# Altium schematic symbol library kmilo17pet-TI_StepDown.SchLib: 565 symbols (part 29 of 33)
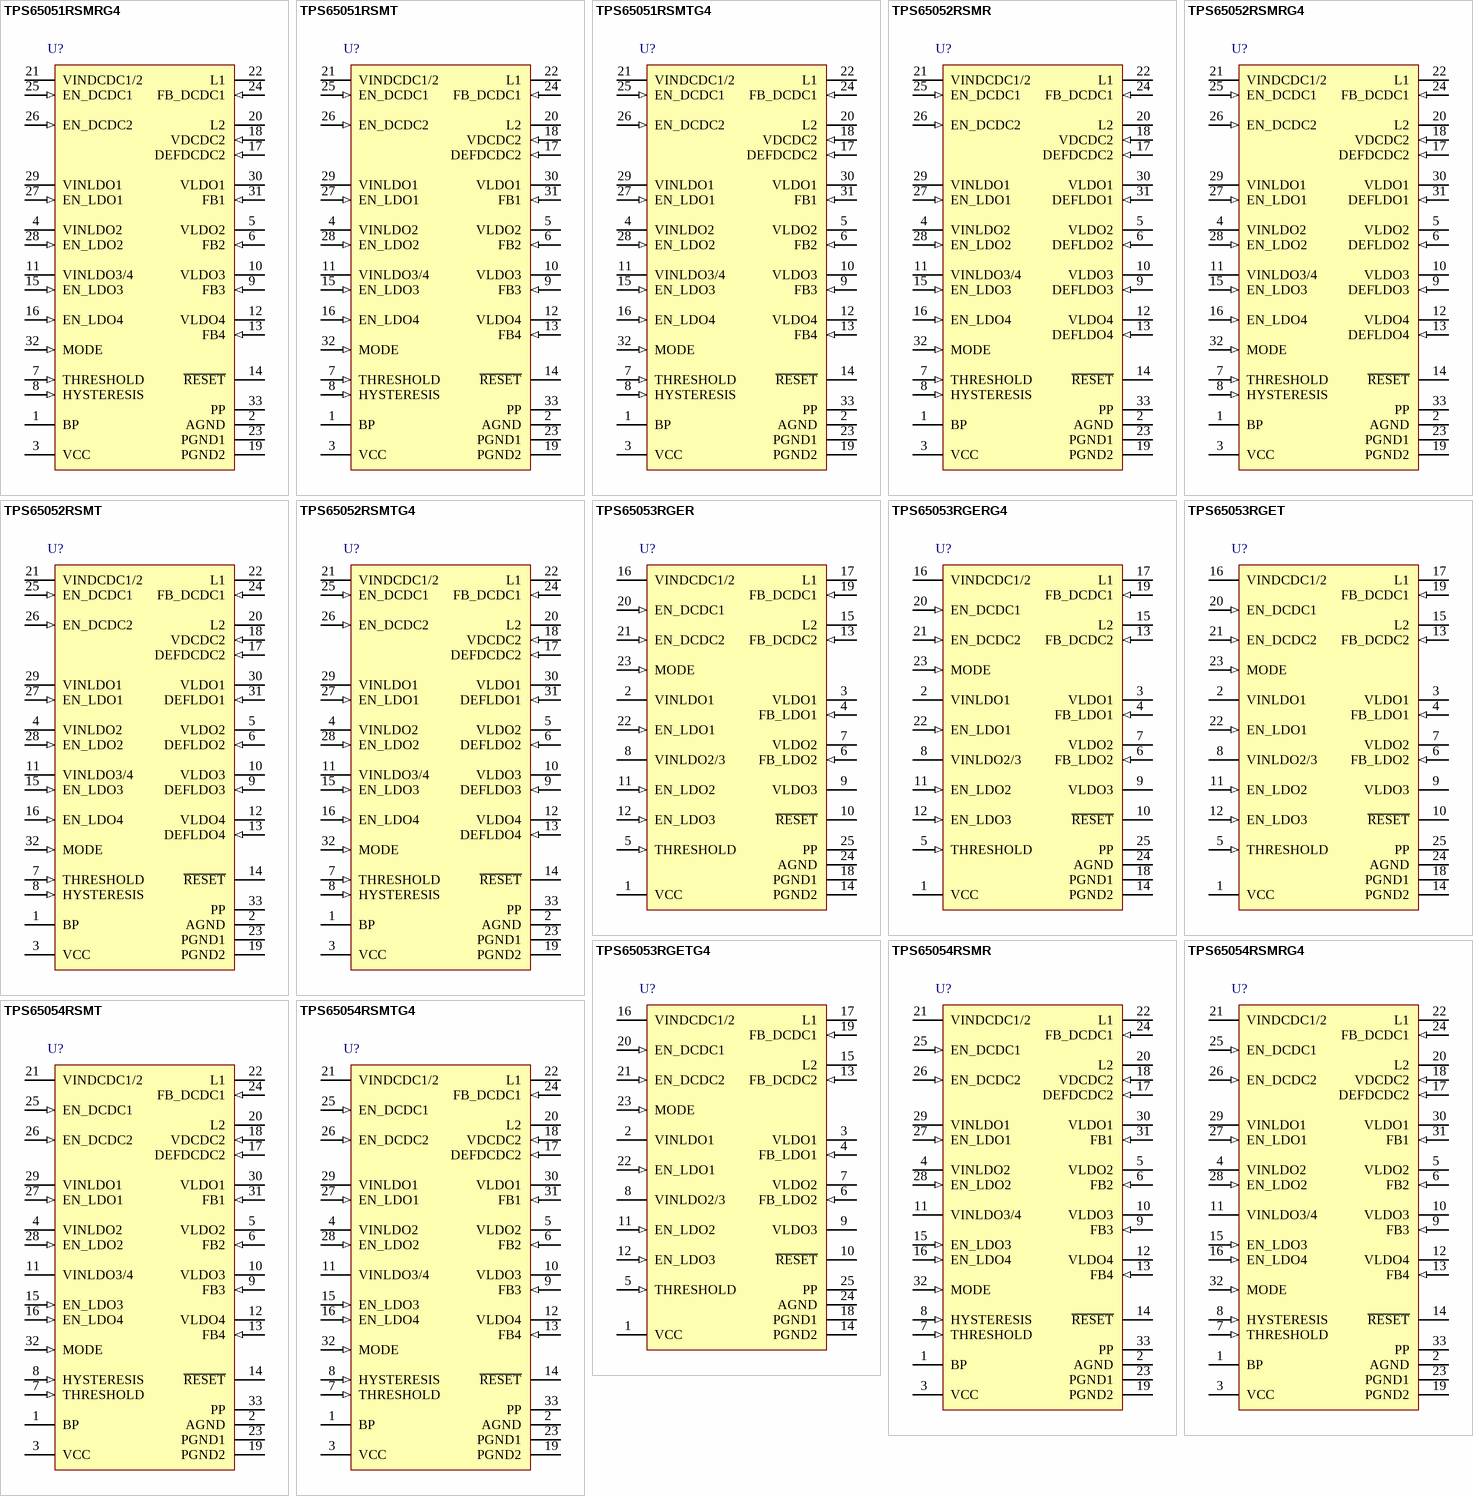
[diagram p47: symbols TPS65051RSMRG4 to TPS65054RSMTG4]

## TPS65052RSMTG4
designator U?
Multi-Channel Power Management IC with 2.5 to 6 V Input and 3.3 V Output, 32-Pin VQFN (RSM), Green (RoHS & no Sb/Br); Manufacturer: Texas Instruments; PartNumber: TPS65052RSMTG4; Duty Cycle(Max)(%): 100; Dynamic Voltage Scaling: TRUE; Iout(Max)(A): 0.6; Iq(Typ)(mA): 2.4; Rating: Catalog; Regulated Outputs(#): 6; SubFamily: Step-Down Regulator; Vin(Min)(V): 2.5; Vout(Max)(V): 3.3; DatasheetVersion: SLVS710A; PackageVersion: revB, Mar-2010; PackageReference: RSM32-2800X2800TP; PackageDescription: 32-Pin Plastic Quad Flat No-Lead, 4 x 4 mm Body, 0.4 mm Pitch, 2.8 x 2.8 mm Exposed Pad; Supplier 1: Digi-Key; Supplier Part Number 1: TPS65052RSMTG4-ND; Eco-Plan: Green (RoHS & no Sb/Br); Topology: Multi-Channel; Vin(Max)(V): 6; Vout(Min)(V): 3.3; Mounting Technology: Surface Mount; ComponentLink1Description: Datasheet; ComponentLink1URL: http://www.ti.com/general/docs/lit/getliterature.tsp?genericPartNumber=TPS65052&fileType=pdf; ComponentLink2Description: Package Specification; ComponentLink2URL: http://www.ti.com/litv/pdf/mpqf195a; ComponentLink3Description: URL Link1; ComponentLink3URL: Samples URL:http://www.ti.com/product/tps54611#samples
footprint RSM32-2800X2800TP (QFN, 32-Leads, Body 4x4mm, Pitch 0.4mm, Thermal Pad 2.8x2.8mm, TI Recommended)
pins: 1 BP "Input for bypass capacitor for internal reference", 2 AGND (power) "Analog GND, connect to PGND and PowerPad", 3 VCC (power) "Power supply for digital and analog circuitry of DCDC1, DCDC2  and LDOs. This pin must be connected to the same voltage supply as VINDCDC1/2.", 4 VINLDO2 (power) "Input voltage for LDO2", 5 VLDO2 (power) "Output voltage of LDO2", 6 DEFLDO2 (in) "Digital input, used to set the default output voltage of LDO1 to LDO4", 7 THRESHOLD (in) "Reset input", 8 HYSTERESIS (in) "Input for hysteresis on reset threshold", 9 DEFLDO3 (in) "Digital input, used to set the default output voltage of LDO1 to LDO4", 10 VLDO3 (power) "Output voltage of LDO3", 11 VINLDO3/4 (power) "Input voltage for LDO3 and LDO4", 12 VLDO4 (power) "Output voltage of LDO4", 13 DEFLDO4 (in) "Digital input ,used to set the default output voltage of LDO1 to LDO4;MSB", 14 ~{RESET} (oc) "Open drain active low reset output, 100 ms reset delay time.", 15 EN_LDO3 (in) "Enable input for LDO3. Logic high enables the LDO, logic low disables the LDO.", 16 EN_LDO4 (in) "Enable input for LDO4. Logic high enables the LDO, logic low disables the LDO.", 17 DEFDCDC2 (in) "TPS65050 and TPS65051: Feedback pin for converter 2. Connect DEFDCDC2 to the center of the external resistor divider. TPS65052 and TPS65056: Select pin of converter 2 output voltage. High = 1.3 V, Low = 1 V TPS65054: Select (See Datasheet)", 18 VDCDC2 (in) "Feedback  voltage sense input, connect directly to the output of converter 2.", 19 PGND2 (power) "GND for converter 2", 20 L2 (power) "Switch Pin of converter 2. Connected to Inductor.", 21 VINDCDC1/2 (power) "Input voltage for VDCDC1 and VDCDC2 step-down converter .This must be concented to the same voltage supply as VCC", 22 L1 (power) "Switch pin of converter 1. Connected to Inductor .", 23 PGND1 (power) "GND for converter 1", 24 FB_DCDC1 (in) "Input to adjust output voltage of converter 1 between 0.6 V and VI. Connect external resistor divider between VOUT1, this pin, and GND.", 25 EN_DCDC1 (in) "Enable Input for converter 1, active high", 26 EN_DCDC2 (in) "Enable Input for converter 2, active high", 27 EN_LDO1 (in) "Enable input for LDO1. Logic high enables the LDO, logic low disables the LDO.", 28 EN_LDO2 (in) "Enable input for LDO2. Logic high enables the LDO, logic low disables the LDO.", 29 VINLDO1 (power) "Input voltage for LDO1", 30 VLDO1 (power) "Output voltage of LDO1", 31 DEFLDO1 (in) "Digital input, used to set the default output voltage of LDO1 to LDO4", 32 MODE (in) "Select between Power Safe Mode and forced PWM Mode for DCDC1 and DCDC2. In Power Safe Mode, PFM is used at light loads, PWM for higher loads. If PIN is set to high level, forced PWM Mode is selected. If Pin has low level, (See Datasheet)", 33 PP (power) "Connect to GND"

## TPS65053RGER
designator U?
Multi-Channel Power Management IC with 2.5 to 6 V Input, -40 to 85 degC, 24-Pin VQFN (RGE), Green (RoHS & no Sb/Br); Manufacturer: Texas Instruments; PartNumber: TPS65053RGER; Rating: Catalog; Regulated Outputs(#): 5; SubFamily: Step-Down Regulator; Vin(Max)(V): 6; Vin(Min)(V): 2.5; DatasheetVersion: SLVS754C; PackageVersion: revG, Jul-2011; PackageReference: RGE24-2700X2700TP; PackageDescription: 24-Pin Plastic Quad Flatpack No-Lead, 4 x 4 mm Body, 0.5 mm Pitch; Supplier 1: Digi-Key; Supplier Part Number 1: 296-24929-2-ND; Eco-Plan: Green (RoHS & no Sb/Br); Topology: Multi-Channel; Mounting Technology: Surface Mount; Code_JEDEC: MO-220; ComponentLink1Description: Datasheet; ComponentLink1URL: http://www.ti.com/general/docs/lit/getliterature.tsp?genericPartNumber=TPS65053&fileType=pdf; ComponentLink2Description: Package Specification; ComponentLink2URL: http://www.ti.com/litv/pdf/mpqf124f; ComponentLink3Description: URL Link1; ComponentLink3URL: Samples URL:http://www.ti.com/product/tps65053#samples
footprint RGE24-2700X2700TP (QFN, 24-Leads, Body 4x4mm, Pitch 0.5mm, Thermal Pad 2.7x2.7mm, TI Recommended)
pins: 1 VCC (power) "Power supply for digital and analog circuit of DCDC1, DCDC2 and LDOs. This pin must be connected to the same voltage supply as VINDCDC1/2.", 2 VINLDO1 (power) "Input voltage for LDO1", 3 VLDO1 (power) "Output voltage of LDO1", 4 FB_LDO1 (in) "Feedback input for the external voltage divider.", 5 THRESHOLD (in) "Reset input", 6 FB_LDO2 (in) "Feedback input for the external voltage divider.", 7 VLDO2 (power) "Output voltage of LDO2", 8 VINLDO2/3 (power) "Input voltage for LDO2 and LDO3", 9 VLDO3 (power) "Output voltage of LDO3", 10 ~{RESET} (oc) "Open drain active low reset output, 100 ms reset delay time.", 11 EN_LDO2 (in) "Enable input for LDO2. Logic high enables the LDO, logic low disables the LDO.", 12 EN_LDO3 (in) "Enable input for LDO3. Logic high enables the LDO, logic low disables the LDO.", 13 FB_DCDC2 (in) "Input to adjust output voltage of converter 2 between 0.6V and VIN.Connect external resistor divider between VOUT2,this pin and GND.", 14 PGND2 (power) "GND for converter 2", 15 L2 (power) "Switch Pin of converter 2. Connected to Inductor.", 16 VINDCDC1/2 (power) "Input voltage for VDCDC1 and VDCDC2 step-down converter. This must be connected to the same voltage supply as VCC.", 17 L1 (power) "Switch pin of converter 1. Connected to Inductor", 18 PGND1 (power) "GND for converter 1", 19 FB_DCDC1 (in) "Input to adjust output voltage of converter 1 between 0.6 V and VI. Connect external resistor divider between VOUT1, this pin and GND.", 20 EN_DCDC1 (in) "Enable Input for converter 1, active high", 21 EN_DCDC2 (in) "Enable Input for converter 2, active high", 22 EN_LDO1 (in) "Enable input for LDO1. Logic high enables the LDO, logic low disables the LDO.", 23 MODE (in) "Select between Power Save Mode and forced PWM Mode for DCDC1 and DCDC2. In Power Save Mode, PFM is used at light loads, PWM for higher loads. If PIN is set to high level, forced PWM Mode is selected. If Pin has low level, (See Datasheet)", 24 AGND (power) "Analog GND, connect to PGND and PowerPAD", 25 PP (power) "Connect to GND"

## TPS65053RGERG4
designator U?
Multi-Channel Power Management IC with 2.5 to 6 V Input, -40 to 85 degC, 24-Pin VQFN (RGE), Green (RoHS & no Sb/Br); Manufacturer: Texas Instruments; PartNumber: TPS65053RGERG4; Rating: Catalog; Regulated Outputs(#): 5; SubFamily: Step-Down Regulator; Vin(Max)(V): 6; Vin(Min)(V): 2.5; DatasheetVersion: SLVS754C; PackageVersion: revG, Jul-2011; PackageReference: RGE24-2700X2700TP; PackageDescription: 24-Pin Plastic Quad Flatpack No-Lead, 4 x 4 mm Body, 0.5 mm Pitch; Supplier 1: Digi-Key; Supplier Part Number 1: TPS65053RGERG4-ND; Eco-Plan: Green (RoHS & no Sb/Br); Topology: Multi-Channel; Mounting Technology: Surface Mount; Code_JEDEC: MO-220; ComponentLink1Description: Datasheet; ComponentLink1URL: http://www.ti.com/general/docs/lit/getliterature.tsp?genericPartNumber=TPS65053&fileType=pdf; ComponentLink2Description: Package Specification; ComponentLink2URL: http://www.ti.com/litv/pdf/mpqf124f; ComponentLink3Description: URL Link1; ComponentLink3URL: Samples URL:http://www.ti.com/product/tps65053#samples
footprint RGE24-2700X2700TP (QFN, 24-Leads, Body 4x4mm, Pitch 0.5mm, Thermal Pad 2.7x2.7mm, TI Recommended)
pins: 1 VCC (power) "Power supply for digital and analog circuit of DCDC1, DCDC2 and LDOs. This pin must be connected to the same voltage supply as VINDCDC1/2.", 2 VINLDO1 (power) "Input voltage for LDO1", 3 VLDO1 (power) "Output voltage of LDO1", 4 FB_LDO1 (in) "Feedback input for the external voltage divider.", 5 THRESHOLD (in) "Reset input", 6 FB_LDO2 (in) "Feedback input for the external voltage divider.", 7 VLDO2 (power) "Output voltage of LDO2", 8 VINLDO2/3 (power) "Input voltage for LDO2 and LDO3", 9 VLDO3 (power) "Output voltage of LDO3", 10 ~{RESET} (oc) "Open drain active low reset output, 100 ms reset delay time.", 11 EN_LDO2 (in) "Enable input for LDO2. Logic high enables the LDO, logic low disables the LDO.", 12 EN_LDO3 (in) "Enable input for LDO3. Logic high enables the LDO, logic low disables the LDO.", 13 FB_DCDC2 (in) "Input to adjust output voltage of converter 2 between 0.6V and VIN.Connect external resistor divider between VOUT2,this pin and GND.", 14 PGND2 (power) "GND for converter 2", 15 L2 (power) "Switch Pin of converter 2. Connected to Inductor.", 16 VINDCDC1/2 (power) "Input voltage for VDCDC1 and VDCDC2 step-down converter. This must be connected to the same voltage supply as VCC.", 17 L1 (power) "Switch pin of converter 1. Connected to Inductor", 18 PGND1 (power) "GND for converter 1", 19 FB_DCDC1 (in) "Input to adjust output voltage of converter 1 between 0.6 V and VI. Connect external resistor divider between VOUT1, this pin and GND.", 20 EN_DCDC1 (in) "Enable Input for converter 1, active high", 21 EN_DCDC2 (in) "Enable Input for converter 2, active high", 22 EN_LDO1 (in) "Enable input for LDO1. Logic high enables the LDO, logic low disables the LDO.", 23 MODE (in) "Select between Power Save Mode and forced PWM Mode for DCDC1 and DCDC2. In Power Save Mode, PFM is used at light loads, PWM for higher loads. If PIN is set to high level, forced PWM Mode is selected. If Pin has low level, (See Datasheet)", 24 AGND (power) "Analog GND, connect to PGND and PowerPAD", 25 PP (power) "Connect to GND"

## TPS65053RGET
designator U?
Multi-Channel Power Management IC with 2.5 to 6 V Input, -40 to 85 degC, 24-Pin VQFN (RGE), Green (RoHS & no Sb/Br); Manufacturer: Texas Instruments; PartNumber: TPS65053RGET; Rating: Catalog; Regulated Outputs(#): 5; SubFamily: Step-Down Regulator; Vin(Max)(V): 6; Vin(Min)(V): 2.5; DatasheetVersion: SLVS754C; PackageVersion: revG, Jul-2011; PackageReference: RGE24-2700X2700TP; PackageDescription: 24-Pin Plastic Quad Flatpack No-Lead, 4 x 4 mm Body, 0.5 mm Pitch; Supplier 1: Digi-Key; Supplier Part Number 1: 296-21686-2-ND; Eco-Plan: Green (RoHS & no Sb/Br); Topology: Multi-Channel; Mounting Technology: Surface Mount; Code_JEDEC: MO-220; ComponentLink1Description: Datasheet; ComponentLink1URL: http://www.ti.com/general/docs/lit/getliterature.tsp?genericPartNumber=TPS65053&fileType=pdf; ComponentLink2Description: Package Specification; ComponentLink2URL: http://www.ti.com/litv/pdf/mpqf124f; ComponentLink3Description: URL Link1; ComponentLink3URL: Samples URL:http://www.ti.com/product/tps65053#samples
footprint RGE24-2700X2700TP (QFN, 24-Leads, Body 4x4mm, Pitch 0.5mm, Thermal Pad 2.7x2.7mm, TI Recommended)
pins: 1 VCC (power) "Power supply for digital and analog circuit of DCDC1, DCDC2 and LDOs. This pin must be connected to the same voltage supply as VINDCDC1/2.", 2 VINLDO1 (power) "Input voltage for LDO1", 3 VLDO1 (power) "Output voltage of LDO1", 4 FB_LDO1 (in) "Feedback input for the external voltage divider.", 5 THRESHOLD (in) "Reset input", 6 FB_LDO2 (in) "Feedback input for the external voltage divider.", 7 VLDO2 (power) "Output voltage of LDO2", 8 VINLDO2/3 (power) "Input voltage for LDO2 and LDO3", 9 VLDO3 (power) "Output voltage of LDO3", 10 ~{RESET} (oc) "Open drain active low reset output, 100 ms reset delay time.", 11 EN_LDO2 (in) "Enable input for LDO2. Logic high enables the LDO, logic low disables the LDO.", 12 EN_LDO3 (in) "Enable input for LDO3. Logic high enables the LDO, logic low disables the LDO.", 13 FB_DCDC2 (in) "Input to adjust output voltage of converter 2 between 0.6V and VIN.Connect external resistor divider between VOUT2,this pin and GND.", 14 PGND2 (power) "GND for converter 2", 15 L2 (power) "Switch Pin of converter 2. Connected to Inductor.", 16 VINDCDC1/2 (power) "Input voltage for VDCDC1 and VDCDC2 step-down converter. This must be connected to the same voltage supply as VCC.", 17 L1 (power) "Switch pin of converter 1. Connected to Inductor", 18 PGND1 (power) "GND for converter 1", 19 FB_DCDC1 (in) "Input to adjust output voltage of converter 1 between 0.6 V and VI. Connect external resistor divider between VOUT1, this pin and GND.", 20 EN_DCDC1 (in) "Enable Input for converter 1, active high", 21 EN_DCDC2 (in) "Enable Input for converter 2, active high", 22 EN_LDO1 (in) "Enable input for LDO1. Logic high enables the LDO, logic low disables the LDO.", 23 MODE (in) "Select between Power Save Mode and forced PWM Mode for DCDC1 and DCDC2. In Power Save Mode, PFM is used at light loads, PWM for higher loads. If PIN is set to high level, forced PWM Mode is selected. If Pin has low level, (See Datasheet)", 24 AGND (power) "Analog GND, connect to PGND and PowerPAD", 25 PP (power) "Connect to GND"

## TPS65053RGETG4
designator U?
Multi-Channel Power Management IC with 2.5 to 6 V Input, -40 to 85 degC, 24-Pin VQFN (RGE), Green (RoHS & no Sb/Br); Manufacturer: Texas Instruments; PartNumber: TPS65053RGETG4; Rating: Catalog; Regulated Outputs(#): 5; SubFamily: Step-Down Regulator; Vin(Max)(V): 6; Vin(Min)(V): 2.5; DatasheetVersion: SLVS754C; PackageVersion: revG, Jul-2011; PackageReference: RGE24-2700X2700TP; PackageDescription: 24-Pin Plastic Quad Flatpack No-Lead, 4 x 4 mm Body, 0.5 mm Pitch; Supplier 1: Digi-Key; Supplier Part Number 1: TPS65053RGETG4-ND; Eco-Plan: Green (RoHS & no Sb/Br); Topology: Multi-Channel; Mounting Technology: Surface Mount; Code_JEDEC: MO-220; ComponentLink1Description: Datasheet; ComponentLink1URL: http://www.ti.com/general/docs/lit/getliterature.tsp?genericPartNumber=TPS65053&fileType=pdf; ComponentLink2Description: Package Specification; ComponentLink2URL: http://www.ti.com/litv/pdf/mpqf124f; ComponentLink3Description: URL Link1; ComponentLink3URL: Samples URL:http://www.ti.com/product/tps54611#samples
footprint RGE24-2700X2700TP (QFN, 24-Leads, Body 4x4mm, Pitch 0.5mm, Thermal Pad 2.7x2.7mm, TI Recommended)
pins: 1 VCC (power) "Power supply for digital and analog circuit of DCDC1, DCDC2 and LDOs. This pin must be connected to the same voltage supply as VINDCDC1/2.", 2 VINLDO1 (power) "Input voltage for LDO1", 3 VLDO1 (power) "Output voltage of LDO1", 4 FB_LDO1 (in) "Feedback input for the external voltage divider.", 5 THRESHOLD (in) "Reset input", 6 FB_LDO2 (in) "Feedback input for the external voltage divider.", 7 VLDO2 (power) "Output voltage of LDO2", 8 VINLDO2/3 (power) "Input voltage for LDO2 and LDO3", 9 VLDO3 (power) "Output voltage of LDO3", 10 ~{RESET} (oc) "Open drain active low reset output, 100 ms reset delay time.", 11 EN_LDO2 (in) "Enable input for LDO2. Logic high enables the LDO, logic low disables the LDO.", 12 EN_LDO3 (in) "Enable input for LDO3. Logic high enables the LDO, logic low disables the LDO.", 13 FB_DCDC2 (in) "Input to adjust output voltage of converter 2 between 0.6V and VIN.Connect external resistor divider between VOUT2,this pin and GND.", 14 PGND2 (power) "GND for converter 2", 15 L2 (power) "Switch Pin of converter 2. Connected to Inductor.", 16 VINDCDC1/2 (power) "Input voltage for VDCDC1 and VDCDC2 step-down converter. This must be connected to the same voltage supply as VCC.", 17 L1 (power) "Switch pin of converter 1. Connected to Inductor", 18 PGND1 (power) "GND for converter 1", 19 FB_DCDC1 (in) "Input to adjust output voltage of converter 1 between 0.6 V and VI. Connect external resistor divider between VOUT1, this pin and GND.", 20 EN_DCDC1 (in) "Enable Input for converter 1, active high", 21 EN_DCDC2 (in) "Enable Input for converter 2, active high", 22 EN_LDO1 (in) "Enable input for LDO1. Logic high enables the LDO, logic low disables the LDO.", 23 MODE (in) "Select between Power Save Mode and forced PWM Mode for DCDC1 and DCDC2. In Power Save Mode, PFM is used at light loads, PWM for higher loads. If PIN is set to high level, forced PWM Mode is selected. If Pin has low level, (See Datasheet)", 24 AGND (power) "Analog GND, connect to PGND and PowerPAD", 25 PP (power) "Connect to GND"

## TPS65054RSMR
designator U?
Multi-Channel Power Management IC with 2.5 to 6 V Input and 0.6 to 2.5 V Output, 32-Pin VQFN (RSM), Green (RoHS & no Sb/Br); Manufacturer: Texas Instruments; PartNumber: TPS65054RSMR; Duty Cycle(Max)(%): 100; Dynamic Voltage Scaling: TRUE; Iout(Max)(A): 0.6; Iq(Typ)(mA): 2.4; Rating: Catalog; Regulated Outputs(#): 6; SubFamily: Step-Down Regulator; Vin(Min)(V): 2.5; DatasheetVersion: SLVS710A; PackageVersion: revB, Mar-2010; PackageReference: RSM32-2800X2800TP; PackageDescription: 32-Pin Plastic Quad Flat No-Lead, 4 x 4 mm Body, 0.4 mm Pitch, 2.8 x 2.8 mm Exposed Pad; Supplier 1: Digi-Key; Supplier Part Number 1: TPS65054RSMR-ND; Eco-Plan: Green (RoHS & no Sb/Br); Topology: Multi-Channel; Vin(Max)(V): 6; Vout(Max)(V): 2.5; Vout(Min)(V): 0.6; Mounting Technology: Surface Mount; ComponentLink1Description: Datasheet; ComponentLink1URL: http://www.ti.com/general/docs/lit/getliterature.tsp?genericPartNumber=TPS65054&fileType=pdf; ComponentLink2Description: Package Specification; ComponentLink2URL: http://www.ti.com/litv/pdf/mpqf195a; ComponentLink3Description: URL Link1; ComponentLink3URL: Samples URL:http://www.ti.com/product/tps65054#samples
footprint RSM32-2800X2800TP (QFN, 32-Leads, Body 4x4mm, Pitch 0.4mm, Thermal Pad 2.8x2.8mm, TI Recommended)
pins: 1 BP "Input for bypass capacitor for internal reference.", 2 AGND (power) "Analog GND, connect to PGND and PowerPad", 3 VCC (power) "Power supply for digital and analog circuitry of DCDC1, DCDC2 and LDOs. This pin must be connected to the same voltage supply as VINDCDC1/2.", 4 VINLDO2 (power) "Input voltage for LDO2.", 5 VLDO2 (power) "Output voltage of LDO2.", 6 FB2 (in) "Feedback input for the external voltage divider.", 7 THRESHOLD (in) "Reset input.", 8 HYSTERESIS (in) "Input for hysteresis on reset threshold.", 9 FB3 (in) "Feedback input for the external voltage divider.", 10 VLDO3 (power) "Output voltage of LDO3.", 11 VINLDO3/4 (power) "Input voltage for LDO3 and LDO4.", 12 VLDO4 (power) "Output voltage of LDO4.", 13 FB4 (in) "Feedback input for the external voltage divider.", 14 ~{RESET} (oc) "Open drain active low reset output, 100 ms reset delay time.", 15 EN_LDO3 (in) "Enable input for LDO3. Logic high enables the LDO, logic low disables the LDO.", 16 EN_LDO4 (in) "Enable input for LDO4. Logic high enables the LDO, logic low disables the LDO.", 17 DEFDCDC2 (in) "TPS65050 and TPS65051: Feedback pin for converter 2. ConnectDEFDCDC2 to the center of the external resistor divider.TPS65052 and TPS65056: Select pin of converter 2 output voltage.High = 1.3 V, Low = 1 VTPS65054: Select pin (See Datasheet)", 18 VDCDC2 (in) "Feedback voltage sense input, connect directly to the output of converter 2.", 19 PGND2 (power) "GND for converter 2.", 20 L2 (power) "Switch Pin of converter 2. Connected to Inductor.", 21 VINDCDC1/2 (power) "Input voltage for VDCDC1 and VDCDC2 step-down converter. This must be connected to the same voltage supply as VCC.", 22 L1 (power) "Switch pin of converter 1. Connected to Inductor.", 23 PGND1 (power) "GND for converter 1.", 24 FB_DCDC1 (in) "Input to adjust output voltage of converter 1 between 0.6 V and V I. Connect external resistor divider between VOUT1, this pin, and GND.", 25 EN_DCDC1 (in) "Enable Input for converter 1, active high.", 26 EN_DCDC2 (in) "Enable Input for converter 2, active high.", 27 EN_LDO1 (in) "Enable input for LDO1. Logic high enables the LDO, logic low disables the LDO.", 28 EN_LDO2 (in) "Enable input for LDO2. Logic high enables the LDO, logic low disables the LDO.", 29 VINLDO1 (power) "Input voltage for LDO1.", 30 VLDO1 (power) "Output voltage of LDO1.", 31 FB1 (in) "Feedback input for the external voltage divider.", 32 MODE (in) "Select between Power Safe Mode and forced PWM Mode forDCDC1 and DCDC2. In Power Safe Mode, PFM is used at light loads, PWM for higher loads. If PIN is set to high level, forcedPWM Mode is selected. If Pin has low level, then (See Datasheet)", 33 PP (power) "Connect to GND."

## TPS65054RSMRG4
designator U?
Multi-Channel Power Management IC with 2.5 to 6 V Input and 0.6 to 2.5 V Output, 32-Pin VQFN (RSM), Green (RoHS & no Sb/Br); Manufacturer: Texas Instruments; PartNumber: TPS65054RSMRG4; Duty Cycle(Max)(%): 100; Dynamic Voltage Scaling: TRUE; Iout(Max)(A): 0.6; Iq(Typ)(mA): 2.4; Rating: Catalog; Regulated Outputs(#): 6; SubFamily: Step-Down Regulator; Vin(Min)(V): 2.5; DatasheetVersion: SLVS710A; PackageVersion: revB, Mar-2010; PackageReference: RSM32-2800X2800TP; PackageDescription: 32-Pin Plastic Quad Flat No-Lead, 4 x 4 mm Body, 0.4 mm Pitch, 2.8 x 2.8 mm Exposed Pad; Supplier 1: Digi-Key; Supplier Part Number 1: TPS65054RSMRG4-ND; Eco-Plan: Green (RoHS & no Sb/Br); Topology: Multi-Channel; Vin(Max)(V): 6; Vout(Max)(V): 2.5; Vout(Min)(V): 0.6; Mounting Technology: Surface Mount; ComponentLink1Description: Datasheet; ComponentLink1URL: http://www.ti.com/general/docs/lit/getliterature.tsp?genericPartNumber=TPS65054&fileType=pdf; ComponentLink2Description: Package Specification; ComponentLink2URL: http://www.ti.com/litv/pdf/mpqf195a; ComponentLink3Description: URL Link1; ComponentLink3URL: Samples URL:http://www.ti.com/product/tps65054#samples
footprint RSM32-2800X2800TP (QFN, 32-Leads, Body 4x4mm, Pitch 0.4mm, Thermal Pad 2.8x2.8mm, TI Recommended)
pins: 1 BP "Input for bypass capacitor for internal reference.", 2 AGND (power) "Analog GND, connect to PGND and PowerPad", 3 VCC (power) "Power supply for digital and analog circuitry of DCDC1, DCDC2 and LDOs. This pin must be connected to the same voltage supply as VINDCDC1/2.", 4 VINLDO2 (power) "Input voltage for LDO2.", 5 VLDO2 (power) "Output voltage of LDO2.", 6 FB2 (in) "Feedback input for the external voltage divider.", 7 THRESHOLD (in) "Reset input.", 8 HYSTERESIS (in) "Input for hysteresis on reset threshold.", 9 FB3 (in) "Feedback input for the external voltage divider.", 10 VLDO3 (power) "Output voltage of LDO3.", 11 VINLDO3/4 (power) "Input voltage for LDO3 and LDO4.", 12 VLDO4 (power) "Output voltage of LDO4.", 13 FB4 (in) "Feedback input for the external voltage divider.", 14 ~{RESET} (oc) "Open drain active low reset output, 100 ms reset delay time.", 15 EN_LDO3 (in) "Enable input for LDO3. Logic high enables the LDO, logic low disables the LDO.", 16 EN_LDO4 (in) "Enable input for LDO4. Logic high enables the LDO, logic low disables the LDO.", 17 DEFDCDC2 (in) "TPS65050 and TPS65051: Feedback pin for converter 2. ConnectDEFDCDC2 to the center of the external resistor divider.TPS65052 and TPS65056: Select pin of converter 2 output voltage.High = 1.3 V, Low = 1 VTPS65054: Select pin (See Datasheet)", 18 VDCDC2 (in) "Feedback voltage sense input, connect directly to the output of converter 2.", 19 PGND2 (power) "GND for converter 2.", 20 L2 (power) "Switch Pin of converter 2. Connected to Inductor.", 21 VINDCDC1/2 (power) "Input voltage for VDCDC1 and VDCDC2 step-down converter. This must be connected to the same voltage supply as VCC.", 22 L1 (power) "Switch pin of converter 1. Connected to Inductor.", 23 PGND1 (power) "GND for converter 1.", 24 FB_DCDC1 (in) "Input to adjust output voltage of converter 1 between 0.6 V and V I. Connect external resistor divider between VOUT1, this pin, and GND.", 25 EN_DCDC1 (in) "Enable Input for converter 1, active high.", 26 EN_DCDC2 (in) "Enable Input for converter 2, active high.", 27 EN_LDO1 (in) "Enable input for LDO1. Logic high enables the LDO, logic low disables the LDO.", 28 EN_LDO2 (in) "Enable input for LDO2. Logic high enables the LDO, logic low disables the LDO.", 29 VINLDO1 (power) "Input voltage for LDO1.", 30 VLDO1 (power) "Output voltage of LDO1.", 31 FB1 (in) "Feedback input for the external voltage divider.", 32 MODE (in) "Select between Power Safe Mode and forced PWM Mode forDCDC1 and DCDC2. In Power Safe Mode, PFM is used at light loads, PWM for higher loads. If PIN is set to high level, forcedPWM Mode is selected. If Pin has low level, then (See Datasheet)", 33 PP (power) "Connect to GND."

## TPS65054RSMT
designator U?
Multi-Channel Power Management IC with 2.5 to 6 V Input and 0.6 to 2.5 V Output, 32-Pin VQFN (RSM), Green (RoHS & no Sb/Br); Manufacturer: Texas Instruments; PartNumber: TPS65054RSMT; Duty Cycle(Max)(%): 100; Dynamic Voltage Scaling: TRUE; Iout(Max)(A): 0.6; Iq(Typ)(mA): 2.4; Rating: Catalog; Regulated Outputs(#): 6; SubFamily: Step-Down Regulator; Vin(Min)(V): 2.5; DatasheetVersion: SLVS710A; PackageVersion: revB, Mar-2010; PackageReference: RSM32-2800X2800TP; PackageDescription: 32-Pin Plastic Quad Flat No-Lead, 4 x 4 mm Body, 0.4 mm Pitch, 2.8 x 2.8 mm Exposed Pad; Supplier 1: Digi-Key; Supplier Part Number 1: 296-21560-2-ND; Supplier 7: Mouser; Supplier Part Number 7: 595-TPS65054RSMT; Eco-Plan: Green (RoHS & no Sb/Br); Topology: Multi-Channel; Vin(Max)(V): 6; Vout(Max)(V): 2.5; Vout(Min)(V): 0.6; Mounting Technology: Surface Mount; ComponentLink1Description: Datasheet; ComponentLink1URL: http://www.ti.com/general/docs/lit/getliterature.tsp?genericPartNumber=TPS65054&fileType=pdf; ComponentLink2Description: Package Specification; ComponentLink2URL: http://www.ti.com/litv/pdf/mpqf195a; ComponentLink3Description: URL Link1; ComponentLink3URL: Samples URL:http://www.ti.com/product/tps65054#samples
footprint RSM32-2800X2800TP (QFN, 32-Leads, Body 4x4mm, Pitch 0.4mm, Thermal Pad 2.8x2.8mm, TI Recommended)
pins: 1 BP "Input for bypass capacitor for internal reference.", 2 AGND (power) "Analog GND, connect to PGND and PowerPad", 3 VCC (power) "Power supply for digital and analog circuitry of DCDC1, DCDC2 and LDOs. This pin must be connected to the same voltage supply as VINDCDC1/2.", 4 VINLDO2 (power) "Input voltage for LDO2.", 5 VLDO2 (power) "Output voltage of LDO2.", 6 FB2 (in) "Feedback input for the external voltage divider.", 7 THRESHOLD (in) "Reset input.", 8 HYSTERESIS (in) "Input for hysteresis on reset threshold.", 9 FB3 (in) "Feedback input for the external voltage divider.", 10 VLDO3 (power) "Output voltage of LDO3.", 11 VINLDO3/4 (power) "Input voltage for LDO3 and LDO4.", 12 VLDO4 (power) "Output voltage of LDO4.", 13 FB4 (in) "Feedback input for the external voltage divider.", 14 ~{RESET} (oc) "Open drain active low reset output, 100 ms reset delay time.", 15 EN_LDO3 (in) "Enable input for LDO3. Logic high enables the LDO, logic low disables the LDO.", 16 EN_LDO4 (in) "Enable input for LDO4. Logic high enables the LDO, logic low disables the LDO.", 17 DEFDCDC2 (in) "TPS65050 and TPS65051: Feedback pin for converter 2. ConnectDEFDCDC2 to the center of the external resistor divider.TPS65052 and TPS65056: Select pin of converter 2 output voltage.High = 1.3 V, Low = 1 VTPS65054: Select pin (See Datasheet)", 18 VDCDC2 (in) "Feedback voltage sense input, connect directly to the output of converter 2.", 19 PGND2 (power) "GND for converter 2.", 20 L2 (power) "Switch Pin of converter 2. Connected to Inductor.", 21 VINDCDC1/2 (power) "Input voltage for VDCDC1 and VDCDC2 step-down converter. This must be connected to the same voltage supply as VCC.", 22 L1 (power) "Switch pin of converter 1. Connected to Inductor.", 23 PGND1 (power) "GND for converter 1.", 24 FB_DCDC1 (in) "Input to adjust output voltage of converter 1 between 0.6 V and V I. Connect external resistor divider between VOUT1, this pin, and GND.", 25 EN_DCDC1 (in) "Enable Input for converter 1, active high.", 26 EN_DCDC2 (in) "Enable Input for converter 2, active high.", 27 EN_LDO1 (in) "Enable input for LDO1. Logic high enables the LDO, logic low disables the LDO.", 28 EN_LDO2 (in) "Enable input for LDO2. Logic high enables the LDO, logic low disables the LDO.", 29 VINLDO1 (power) "Input voltage for LDO1.", 30 VLDO1 (power) "Output voltage of LDO1.", 31 FB1 (in) "Feedback input for the external voltage divider.", 32 MODE (in) "Select between Power Safe Mode and forced PWM Mode forDCDC1 and DCDC2. In Power Safe Mode, PFM is used at light loads, PWM for higher loads. If PIN is set to high level, forcedPWM Mode is selected. If Pin has low level, then (See Datasheet)", 33 PP (power) "Connect to GND."

## TPS65054RSMTG4
designator U?
Multi-Channel Power Management IC with 2.5 to 6 V Input and 0.6 to 2.5 V Output, 32-Pin VQFN (RSM), Green (RoHS & no Sb/Br); Manufacturer: Texas Instruments; PartNumber: TPS65054RSMTG4; Duty Cycle(Max)(%): 100; Dynamic Voltage Scaling: TRUE; Iout(Max)(A): 0.6; Iq(Typ)(mA): 2.4; Rating: Catalog; Regulated Outputs(#): 6; SubFamily: Step-Down Regulator; Vin(Min)(V): 2.5; DatasheetVersion: SLVS710A; PackageVersion: revB, Mar-2010; PackageReference: RSM32-2800X2800TP; PackageDescription: 32-Pin Plastic Quad Flat No-Lead, 4 x 4 mm Body, 0.4 mm Pitch, 2.8 x 2.8 mm Exposed Pad; Supplier 1: Digi-Key; Supplier Part Number 1: TPS65054RSMTG4-ND; Eco-Plan: Green (RoHS & no Sb/Br); Topology: Multi-Channel; Vin(Max)(V): 6; Vout(Max)(V): 2.5; Vout(Min)(V): 0.6; Mounting Technology: Surface Mount; ComponentLink1Description: Datasheet; ComponentLink1URL: http://www.ti.com/general/docs/lit/getliterature.tsp?genericPartNumber=TPS65054&fileType=pdf; ComponentLink2Description: Package Specification; ComponentLink2URL: http://www.ti.com/litv/pdf/mpqf195a; ComponentLink3Description: URL Link1; ComponentLink3URL: Samples URL:http://www.ti.com/product/tps54611#samples
footprint RSM32-2800X2800TP (QFN, 32-Leads, Body 4x4mm, Pitch 0.4mm, Thermal Pad 2.8x2.8mm, TI Recommended)
pins: 1 BP "Input for bypass capacitor for internal reference.", 2 AGND (power) "Analog GND, connect to PGND and PowerPad", 3 VCC (power) "Power supply for digital and analog circuitry of DCDC1, DCDC2 and LDOs. This pin must be connected to the same voltage supply as VINDCDC1/2.", 4 VINLDO2 (power) "Input voltage for LDO2.", 5 VLDO2 (power) "Output voltage of LDO2.", 6 FB2 (in) "Feedback input for the external voltage divider.", 7 THRESHOLD (in) "Reset input.", 8 HYSTERESIS (in) "Input for hysteresis on reset threshold.", 9 FB3 (in) "Feedback input for the external voltage divider.", 10 VLDO3 (power) "Output voltage of LDO3.", 11 VINLDO3/4 (power) "Input voltage for LDO3 and LDO4.", 12 VLDO4 (power) "Output voltage of LDO4.", 13 FB4 (in) "Feedback input for the external voltage divider.", 14 ~{RESET} (oc) "Open drain active low reset output, 100 ms reset delay time.", 15 EN_LDO3 (in) "Enable input for LDO3. Logic high enables the LDO, logic low disables the LDO.", 16 EN_LDO4 (in) "Enable input for LDO4. Logic high enables the LDO, logic low disables the LDO.", 17 DEFDCDC2 (in) "TPS65050 and TPS65051: Feedback pin for converter 2. ConnectDEFDCDC2 to the center of the external resistor divider.TPS65052 and TPS65056: Select pin of converter 2 output voltage.High = 1.3 V, Low = 1 VTPS65054: Select pin (See Datasheet)", 18 VDCDC2 (in) "Feedback voltage sense input, connect directly to the output of converter 2.", 19 PGND2 (power) "GND for converter 2.", 20 L2 (power) "Switch Pin of converter 2. Connected to Inductor.", 21 VINDCDC1/2 (power) "Input voltage for VDCDC1 and VDCDC2 step-down converter. This must be connected to the same voltage supply as VCC.", 22 L1 (power) "Switch pin of converter 1. Connected to Inductor.", 23 PGND1 (power) "GND for converter 1.", 24 FB_DCDC1 (in) "Input to adjust output voltage of converter 1 between 0.6 V and V I. Connect external resistor divider between VOUT1, this pin, and GND.", 25 EN_DCDC1 (in) "Enable Input for converter 1, active high.", 26 EN_DCDC2 (in) "Enable Input for converter 2, active high.", 27 EN_LDO1 (in) "Enable input for LDO1. Logic high enables the LDO, logic low disables the LDO.", 28 EN_LDO2 (in) "Enable input for LDO2. Logic high enables the LDO, logic low disables the LDO.", 29 VINLDO1 (power) "Input voltage for LDO1.", 30 VLDO1 (power) "Output voltage of LDO1.", 31 FB1 (in) "Feedback input for the external voltage divider.", 32 MODE (in) "Select between Power Safe Mode and forced PWM Mode forDCDC1 and DCDC2. In Power Safe Mode, PFM is used at light loads, PWM for higher loads. If PIN is set to high level, forcedPWM Mode is selected. If Pin has low level, then (See Datasheet)", 33 PP (power) "Connect to GND."

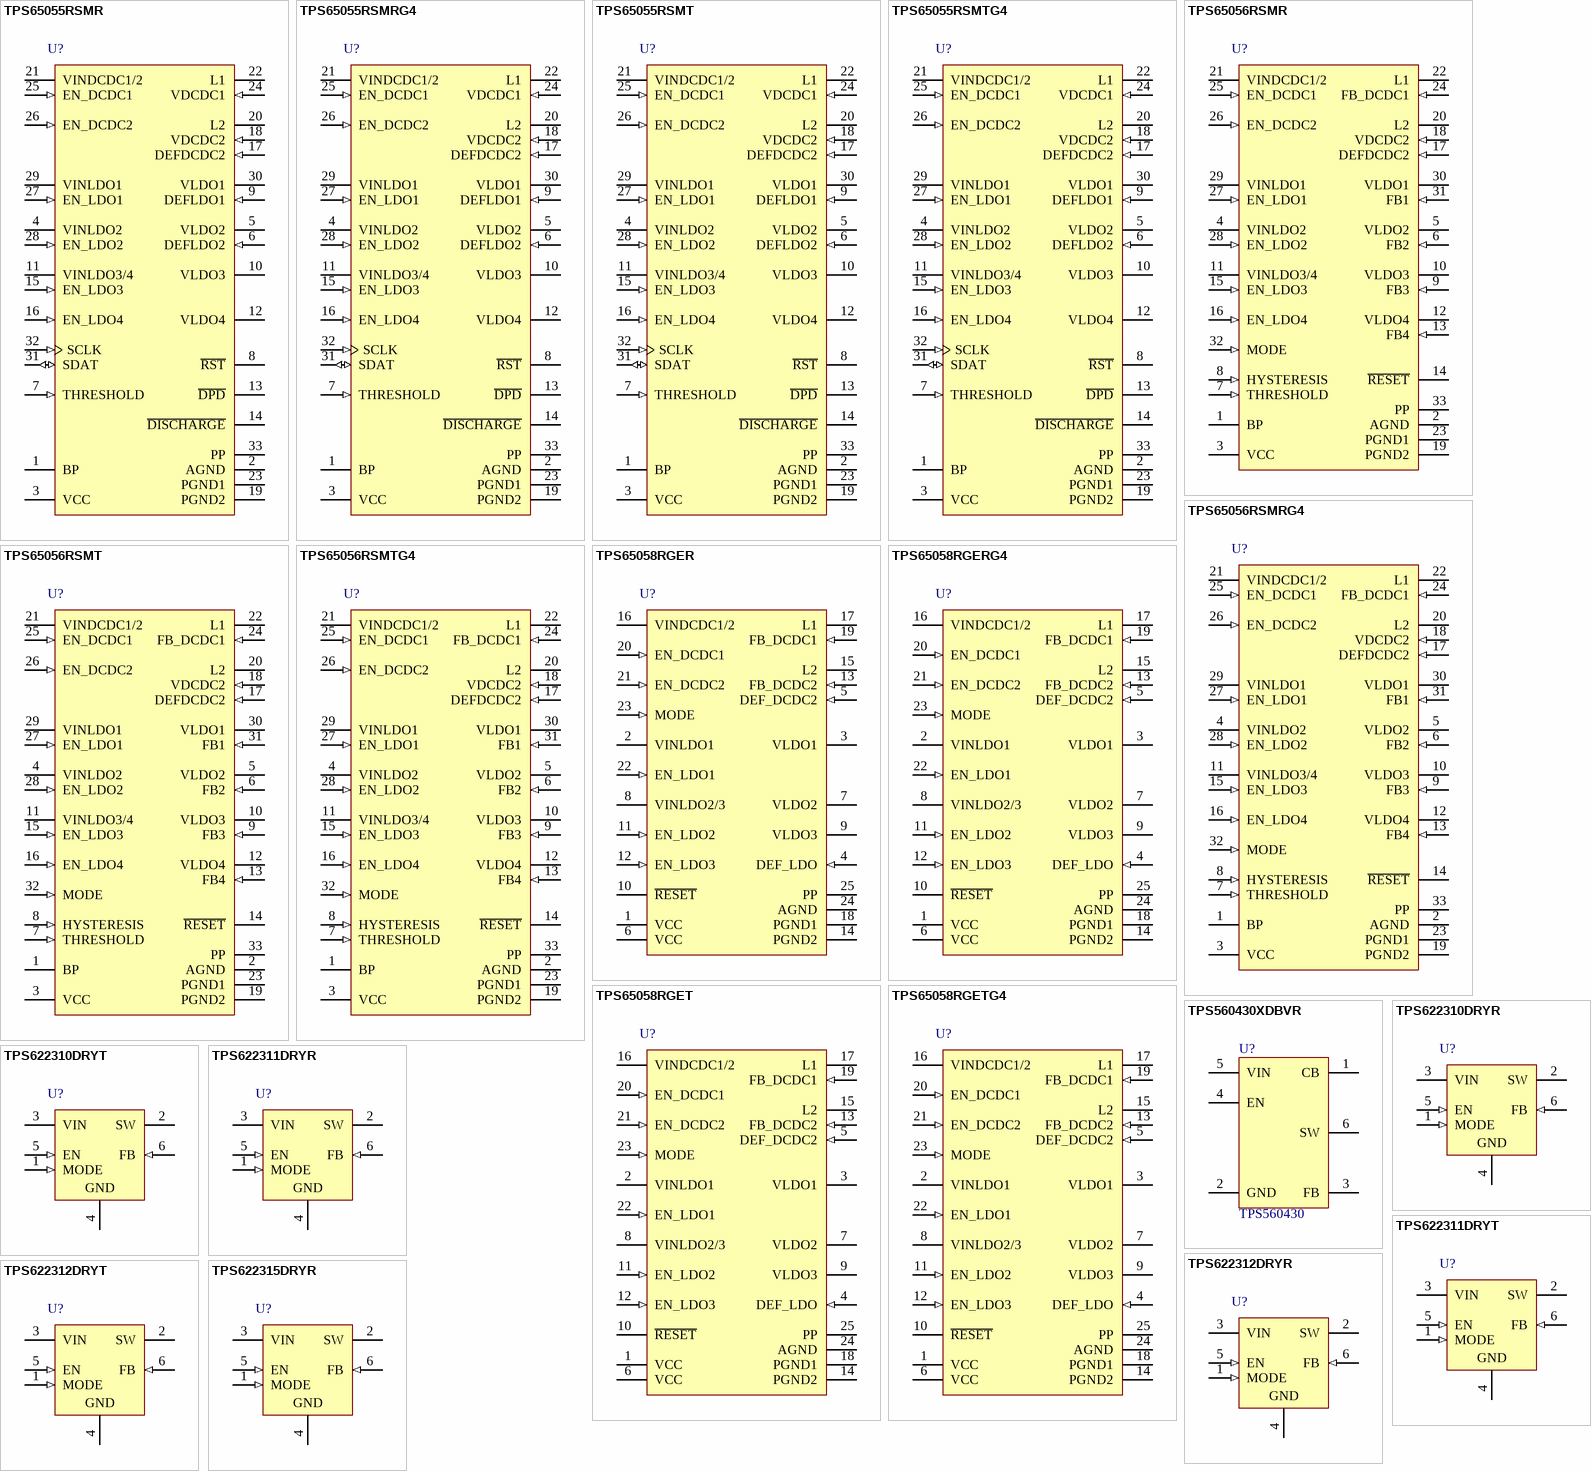
[diagram p16: symbols TPS65055RSMR to TPS622315DRYR]

## TPS65055RSMR
designator U?
Multi-Channel Power Management IC with 2.5 to 6 V Input, -40 to 85 degC, 32-Pin VQFN (RSM), Green (RoHS & no Sb/Br); Manufacturer: Texas Instruments; PartNumber: TPS65055RSMR; Duty Cycle(Max)(%): 100; Dynamic Voltage Scaling: TRUE; Iout(Max)(A): 0.6; Iq(Typ)(mA): 1.25; Rating: Catalog; Regulated Outputs(#): 6; SubFamily: Step-Down Regulator; Vin(Min)(V): 2.5; DatasheetVersion: SLVS844; PackageVersion: revB, Mar-2010; PackageReference: RSM32-2800X2800TP; PackageDescription: 32-Pin Plastic Quad Flat No-Lead, 4 x 4 mm Body, 0.4 mm Pitch, 2.8 x 2.8 mm Exposed Pad; Supplier 1: Digi-Key; Supplier Part Number 1: 296-23822-2-ND; Eco-Plan: Green (RoHS & no Sb/Br); Topology: Multi-Channel; Vin(Max)(V): 6; Mounting Technology: Surface Mount; ComponentLink1Description: Datasheet; ComponentLink1URL: http://www.ti.com/general/docs/lit/getliterature.tsp?genericPartNumber=TPS65055&fileType=pdf; ComponentLink2Description: Package Specification; ComponentLink2URL: http://www.ti.com/litv/pdf/mpqf195a; ComponentLink3Description: URL Link1; ComponentLink3URL: Samples URL:http://www.ti.com/product/tps65055#samples
footprint RSM32-2800X2800TP (QFN, 32-Leads, Body 4x4mm, Pitch 0.4mm, Thermal Pad 2.8x2.8mm, TI Recommended)
pins: 1 BP "Input for bypass capacitor for internal reference", 2 AGND (power) "Analog GND, connect to PGND and PowerPAD", 3 VCC (power) "Power supply for digital and analog circuitry of DCDC1, DCDC2 and LDOs. This pin must be connected to the same voltage supply as VINDCDC1/2.", 4 VINLDO2 (power) "Input voltage for LDO2", 5 VLDO2 (power) "Output voltage of LDO2", 6 DEFLDO2 (in) "Digital input, used to set the default output voltage of LDO1 to LDO4; MSB", 7 THRESHOLD (in) "Input to comparator driving the d\i\s\c\h\a\r\g\e\ output. If the input voltage at threshold is < 0.8 V, the d\i\s\c\h\a\r\g\e\ output is actively pulled low.", 8 ~{RST} (oc) "Open drain active low output; low after UVLO event", 9 DEFLDO1 (in) "Digital input, used to set the default output voltage of LDO1 to LDO4; LSB", 10 VLDO3 (power) "Output voltage of LDO3", 11 VINLDO3/4 (power) "Input voltage for LDO3 and LDO4", 12 VLDO4 (power) "Output voltage of LDO4", 13 ~{DPD} (oc) "Open drain active low output; low after UVLO event", 14 ~{DISCHARGE} (oc) "Open drain output driven by the signal at the threshold input", 15 EN_LDO3 (in) "Enable input for LDO3. Logic high enables the LDO, logic low disables the LDO.", 16 EN_LDO4 (in) "Enable input for LDO4. Logic high enables the LDO, logic low disables the LDO.", 17 DEFDCDC2 (in) "Select pin of converter 2 output voltage. High = 1.0 V, low = 1.2 V", 18 VDCDC2 (in) "Feedback voltage sense input, connect directly to Vout2", 19 PGND2 (power) "GND for converter 2", 20 L2 (power) "Switch pin of converter 2. Connected to inductor.", 21 VINDCDC1/2 (power) "Input voltage for VDCDC1 and VDCDC2 step-down converter. This must be connected to the same voltage supply as VCC.", 22 L1 (power) "Switch pin of converter1. Connected to inductor", 23 PGND1 (power) "GND for converter 1", 24 VDCDC1 (in) "Feedback voltage sense input, connect directly to Vout1", 25 EN_DCDC1 (in) "Enable input for converter1, active high", 26 EN_DCDC2 (in) "Enable input for converter2, active high", 27 EN_LDO1 (in) "Enable input for LDO1. Logic high enables the LDO, logic low disables the LDO.", 28 EN_LDO2 (in) "Enable input for LDO2. Logic high enables the LDO, logic low disables the LDO.", 29 VINLDO1 (power) "Input voltage for LDO1", 30 VLDO1 (power) "Output voltage of LDO1", 31 SDAT (io) "Data line for the I2C compatible interface.", 32 SCLK (in) "Clock input for the I2C compatible interface.", 33 PP (power) "Connect to GND"

## TPS65055RSMRG4
designator U?
Multi-Channel Power Management IC with 2.5 to 6 V Input, -40 to 85 degC, 32-Pin VQFN (RSM), Green (RoHS & no Sb/Br); Manufacturer: Texas Instruments; PartNumber: TPS65055RSMRG4; Duty Cycle(Max)(%): 100; Dynamic Voltage Scaling: TRUE; Iout(Max)(A): 0.6; Iq(Typ)(mA): 1.25; Rating: Catalog; Regulated Outputs(#): 6; SubFamily: Step-Down Regulator; Vin(Min)(V): 2.5; DatasheetVersion: SLVS844; PackageVersion: revB, Mar-2010; PackageReference: RSM32-2800X2800TP; PackageDescription: 32-Pin Plastic Quad Flat No-Lead, 4 x 4 mm Body, 0.4 mm Pitch, 2.8 x 2.8 mm Exposed Pad; Supplier 1: Digi-Key; Supplier Part Number 1: TPS65055RSMRG4-ND; Eco-Plan: Green (RoHS & no Sb/Br); Topology: Multi-Channel; Vin(Max)(V): 6; Mounting Technology: Surface Mount; ComponentLink1Description: Datasheet; ComponentLink1URL: http://www.ti.com/general/docs/lit/getliterature.tsp?genericPartNumber=TPS65055&fileType=pdf; ComponentLink2Description: Package Specification; ComponentLink2URL: http://www.ti.com/litv/pdf/mpqf195a; ComponentLink3Description: URL Link1; ComponentLink3URL: Samples URL:http://www.ti.com/product/tps65055#samples
footprint RSM32-2800X2800TP (QFN, 32-Leads, Body 4x4mm, Pitch 0.4mm, Thermal Pad 2.8x2.8mm, TI Recommended)
pins: 1 BP "Input for bypass capacitor for internal reference", 2 AGND (power) "Analog GND, connect to PGND and PowerPAD", 3 VCC (power) "Power supply for digital and analog circuitry of DCDC1, DCDC2 and LDOs. This pin must be connected to the same voltage supply as VINDCDC1/2.", 4 VINLDO2 (power) "Input voltage for LDO2", 5 VLDO2 (power) "Output voltage of LDO2", 6 DEFLDO2 (in) "Digital input, used to set the default output voltage of LDO1 to LDO4; MSB", 7 THRESHOLD (in) "Input to comparator driving the d\i\s\c\h\a\r\g\e\ output. If the input voltage at threshold is < 0.8 V, the d\i\s\c\h\a\r\g\e\ output is actively pulled low.", 8 ~{RST} (oc) "Open drain active low output; low after UVLO event", 9 DEFLDO1 (in) "Digital input, used to set the default output voltage of LDO1 to LDO4; LSB", 10 VLDO3 (power) "Output voltage of LDO3", 11 VINLDO3/4 (power) "Input voltage for LDO3 and LDO4", 12 VLDO4 (power) "Output voltage of LDO4", 13 ~{DPD} (oc) "Open drain active low output; low after UVLO event", 14 ~{DISCHARGE} (oc) "Open drain output driven by the signal at the threshold input", 15 EN_LDO3 (in) "Enable input for LDO3. Logic high enables the LDO, logic low disables the LDO.", 16 EN_LDO4 (in) "Enable input for LDO4. Logic high enables the LDO, logic low disables the LDO.", 17 DEFDCDC2 (in) "Select pin of converter 2 output voltage. High = 1.0 V, low = 1.2 V", 18 VDCDC2 (in) "Feedback voltage sense input, connect directly to Vout2", 19 PGND2 (power) "GND for converter 2", 20 L2 (power) "Switch pin of converter 2. Connected to inductor.", 21 VINDCDC1/2 (power) "Input voltage for VDCDC1 and VDCDC2 step-down converter. This must be connected to the same voltage supply as VCC.", 22 L1 (power) "Switch pin of converter1. Connected to inductor", 23 PGND1 (power) "GND for converter 1", 24 VDCDC1 (in) "Feedback voltage sense input, connect directly to Vout1", 25 EN_DCDC1 (in) "Enable input for converter1, active high", 26 EN_DCDC2 (in) "Enable input for converter2, active high", 27 EN_LDO1 (in) "Enable input for LDO1. Logic high enables the LDO, logic low disables the LDO.", 28 EN_LDO2 (in) "Enable input for LDO2. Logic high enables the LDO, logic low disables the LDO.", 29 VINLDO1 (power) "Input voltage for LDO1", 30 VLDO1 (power) "Output voltage of LDO1", 31 SDAT (io) "Data line for the I2C compatible interface.", 32 SCLK (in) "Clock input for the I2C compatible interface.", 33 PP (power) "Connect to GND"

## TPS65055RSMT
designator U?
Multi-Channel Power Management IC with 2.5 to 6 V Input, -40 to 85 degC, 32-Pin VQFN (RSM), Green (RoHS & no Sb/Br); Manufacturer: Texas Instruments; PartNumber: TPS65055RSMT; Duty Cycle(Max)(%): 100; Dynamic Voltage Scaling: TRUE; Iout(Max)(A): 0.6; Iq(Typ)(mA): 1.25; Rating: Catalog; Regulated Outputs(#): 6; SubFamily: Step-Down Regulator; Vin(Min)(V): 2.5; DatasheetVersion: SLVS844; PackageVersion: revB, Mar-2010; PackageReference: RSM32-2800X2800TP; PackageDescription: 32-Pin Plastic Quad Flat No-Lead, 4 x 4 mm Body, 0.4 mm Pitch, 2.8 x 2.8 mm Exposed Pad; Supplier 1: Digi-Key; Supplier Part Number 1: TPS65055RSMT-ND; Eco-Plan: Green (RoHS & no Sb/Br); Topology: Multi-Channel; Vin(Max)(V): 6; Mounting Technology: Surface Mount; ComponentLink1Description: Datasheet; ComponentLink1URL: http://www.ti.com/general/docs/lit/getliterature.tsp?genericPartNumber=TPS65055&fileType=pdf; ComponentLink2Description: Package Specification; ComponentLink2URL: http://www.ti.com/litv/pdf/mpqf195a; ComponentLink3Description: URL Link1; ComponentLink3URL: Samples URL:http://www.ti.com/product/tps65055#samples
footprint RSM32-2800X2800TP (QFN, 32-Leads, Body 4x4mm, Pitch 0.4mm, Thermal Pad 2.8x2.8mm, TI Recommended)
pins: 1 BP "Input for bypass capacitor for internal reference", 2 AGND (power) "Analog GND, connect to PGND and PowerPAD", 3 VCC (power) "Power supply for digital and analog circuitry of DCDC1, DCDC2 and LDOs. This pin must be connected to the same voltage supply as VINDCDC1/2.", 4 VINLDO2 (power) "Input voltage for LDO2", 5 VLDO2 (power) "Output voltage of LDO2", 6 DEFLDO2 (in) "Digital input, used to set the default output voltage of LDO1 to LDO4; MSB", 7 THRESHOLD (in) "Input to comparator driving the d\i\s\c\h\a\r\g\e\ output. If the input voltage at threshold is < 0.8 V, the d\i\s\c\h\a\r\g\e\ output is actively pulled low.", 8 ~{RST} (oc) "Open drain active low output; low after UVLO event", 9 DEFLDO1 (in) "Digital input, used to set the default output voltage of LDO1 to LDO4; LSB", 10 VLDO3 (power) "Output voltage of LDO3", 11 VINLDO3/4 (power) "Input voltage for LDO3 and LDO4", 12 VLDO4 (power) "Output voltage of LDO4", 13 ~{DPD} (oc) "Open drain active low output; low after UVLO event", 14 ~{DISCHARGE} (oc) "Open drain output driven by the signal at the threshold input", 15 EN_LDO3 (in) "Enable input for LDO3. Logic high enables the LDO, logic low disables the LDO.", 16 EN_LDO4 (in) "Enable input for LDO4. Logic high enables the LDO, logic low disables the LDO.", 17 DEFDCDC2 (in) "Select pin of converter 2 output voltage. High = 1.0 V, low = 1.2 V", 18 VDCDC2 (in) "Feedback voltage sense input, connect directly to Vout2", 19 PGND2 (power) "GND for converter 2", 20 L2 (power) "Switch pin of converter 2. Connected to inductor.", 21 VINDCDC1/2 (power) "Input voltage for VDCDC1 and VDCDC2 step-down converter. This must be connected to the same voltage supply as VCC.", 22 L1 (power) "Switch pin of converter1. Connected to inductor", 23 PGND1 (power) "GND for converter 1", 24 VDCDC1 (in) "Feedback voltage sense input, connect directly to Vout1", 25 EN_DCDC1 (in) "Enable input for converter1, active high", 26 EN_DCDC2 (in) "Enable input for converter2, active high", 27 EN_LDO1 (in) "Enable input for LDO1. Logic high enables the LDO, logic low disables the LDO.", 28 EN_LDO2 (in) "Enable input for LDO2. Logic high enables the LDO, logic low disables the LDO.", 29 VINLDO1 (power) "Input voltage for LDO1", 30 VLDO1 (power) "Output voltage of LDO1", 31 SDAT (io) "Data line for the I2C compatible interface.", 32 SCLK (in) "Clock input for the I2C compatible interface.", 33 PP (power) "Connect to GND"

## TPS65055RSMTG4
designator U?
Multi-Channel Power Management IC with 2.5 to 6 V Input, -40 to 85 degC, 32-Pin VQFN (RSM), Green (RoHS & no Sb/Br); Manufacturer: Texas Instruments; PartNumber: TPS65055RSMTG4; Duty Cycle(Max)(%): 100; Dynamic Voltage Scaling: TRUE; Iout(Max)(A): 0.6; Iq(Typ)(mA): 1.25; Rating: Catalog; Regulated Outputs(#): 6; SubFamily: Step-Down Regulator; Vin(Min)(V): 2.5; DatasheetVersion: SLVS844; PackageVersion: revB, Mar-2010; PackageReference: RSM32-2800X2800TP; PackageDescription: 32-Pin Plastic Quad Flat No-Lead, 4 x 4 mm Body, 0.4 mm Pitch, 2.8 x 2.8 mm Exposed Pad; Supplier 1: Digi-Key; Supplier Part Number 1: TPS65055RSMTG4-ND; Eco-Plan: Green (RoHS & no Sb/Br); Topology: Multi-Channel; Vin(Max)(V): 6; Mounting Technology: Surface Mount; ComponentLink1Description: Datasheet; ComponentLink1URL: http://www.ti.com/general/docs/lit/getliterature.tsp?genericPartNumber=TPS65055&fileType=pdf; ComponentLink2Description: Package Specification; ComponentLink2URL: http://www.ti.com/litv/pdf/mpqf195a; ComponentLink3Description: URL Link1; ComponentLink3URL: Samples URL:http://www.ti.com/product/tps65055#samples
footprint RSM32-2800X2800TP (QFN, 32-Leads, Body 4x4mm, Pitch 0.4mm, Thermal Pad 2.8x2.8mm, TI Recommended)
pins: 1 BP "Input for bypass capacitor for internal reference", 2 AGND (power) "Analog GND, connect to PGND and PowerPAD", 3 VCC (power) "Power supply for digital and analog circuitry of DCDC1, DCDC2 and LDOs. This pin must be connected to the same voltage supply as VINDCDC1/2.", 4 VINLDO2 (power) "Input voltage for LDO2", 5 VLDO2 (power) "Output voltage of LDO2", 6 DEFLDO2 (in) "Digital input, used to set the default output voltage of LDO1 to LDO4; MSB", 7 THRESHOLD (in) "Input to comparator driving the d\i\s\c\h\a\r\g\e\ output. If the input voltage at threshold is < 0.8 V, the d\i\s\c\h\a\r\g\e\ output is actively pulled low.", 8 ~{RST} (oc) "Open drain active low output; low after UVLO event", 9 DEFLDO1 (in) "Digital input, used to set the default output voltage of LDO1 to LDO4; LSB", 10 VLDO3 (power) "Output voltage of LDO3", 11 VINLDO3/4 (power) "Input voltage for LDO3 and LDO4", 12 VLDO4 (power) "Output voltage of LDO4", 13 ~{DPD} (oc) "Open drain active low output; low after UVLO event", 14 ~{DISCHARGE} (oc) "Open drain output driven by the signal at the threshold input", 15 EN_LDO3 (in) "Enable input for LDO3. Logic high enables the LDO, logic low disables the LDO.", 16 EN_LDO4 (in) "Enable input for LDO4. Logic high enables the LDO, logic low disables the LDO.", 17 DEFDCDC2 (in) "Select pin of converter 2 output voltage. High = 1.0 V, low = 1.2 V", 18 VDCDC2 (in) "Feedback voltage sense input, connect directly to Vout2", 19 PGND2 (power) "GND for converter 2", 20 L2 (power) "Switch pin of converter 2. Connected to inductor.", 21 VINDCDC1/2 (power) "Input voltage for VDCDC1 and VDCDC2 step-down converter. This must be connected to the same voltage supply as VCC.", 22 L1 (power) "Switch pin of converter1. Connected to inductor", 23 PGND1 (power) "GND for converter 1", 24 VDCDC1 (in) "Feedback voltage sense input, connect directly to Vout1", 25 EN_DCDC1 (in) "Enable input for converter1, active high", 26 EN_DCDC2 (in) "Enable input for converter2, active high", 27 EN_LDO1 (in) "Enable input for LDO1. Logic high enables the LDO, logic low disables the LDO.", 28 EN_LDO2 (in) "Enable input for LDO2. Logic high enables the LDO, logic low disables the LDO.", 29 VINLDO1 (power) "Input voltage for LDO1", 30 VLDO1 (power) "Output voltage of LDO1", 31 SDAT (io) "Data line for the I2C compatible interface.", 32 SCLK (in) "Clock input for the I2C compatible interface.", 33 PP (power) "Connect to GND"